# Altium footprint library PCB_General.PcbLib: 49 footprints (part 1 of 4)
Each footprint in its own frame and in the unit in brackets; x right, y up, seen from the top. Pads: shape width x height; smd on the part's side, far side on the other; paste and mask are expansions set on the pad; w line width, h text height; cw(c..) or ccw(c..) is an arc to the next point about the centre after c.
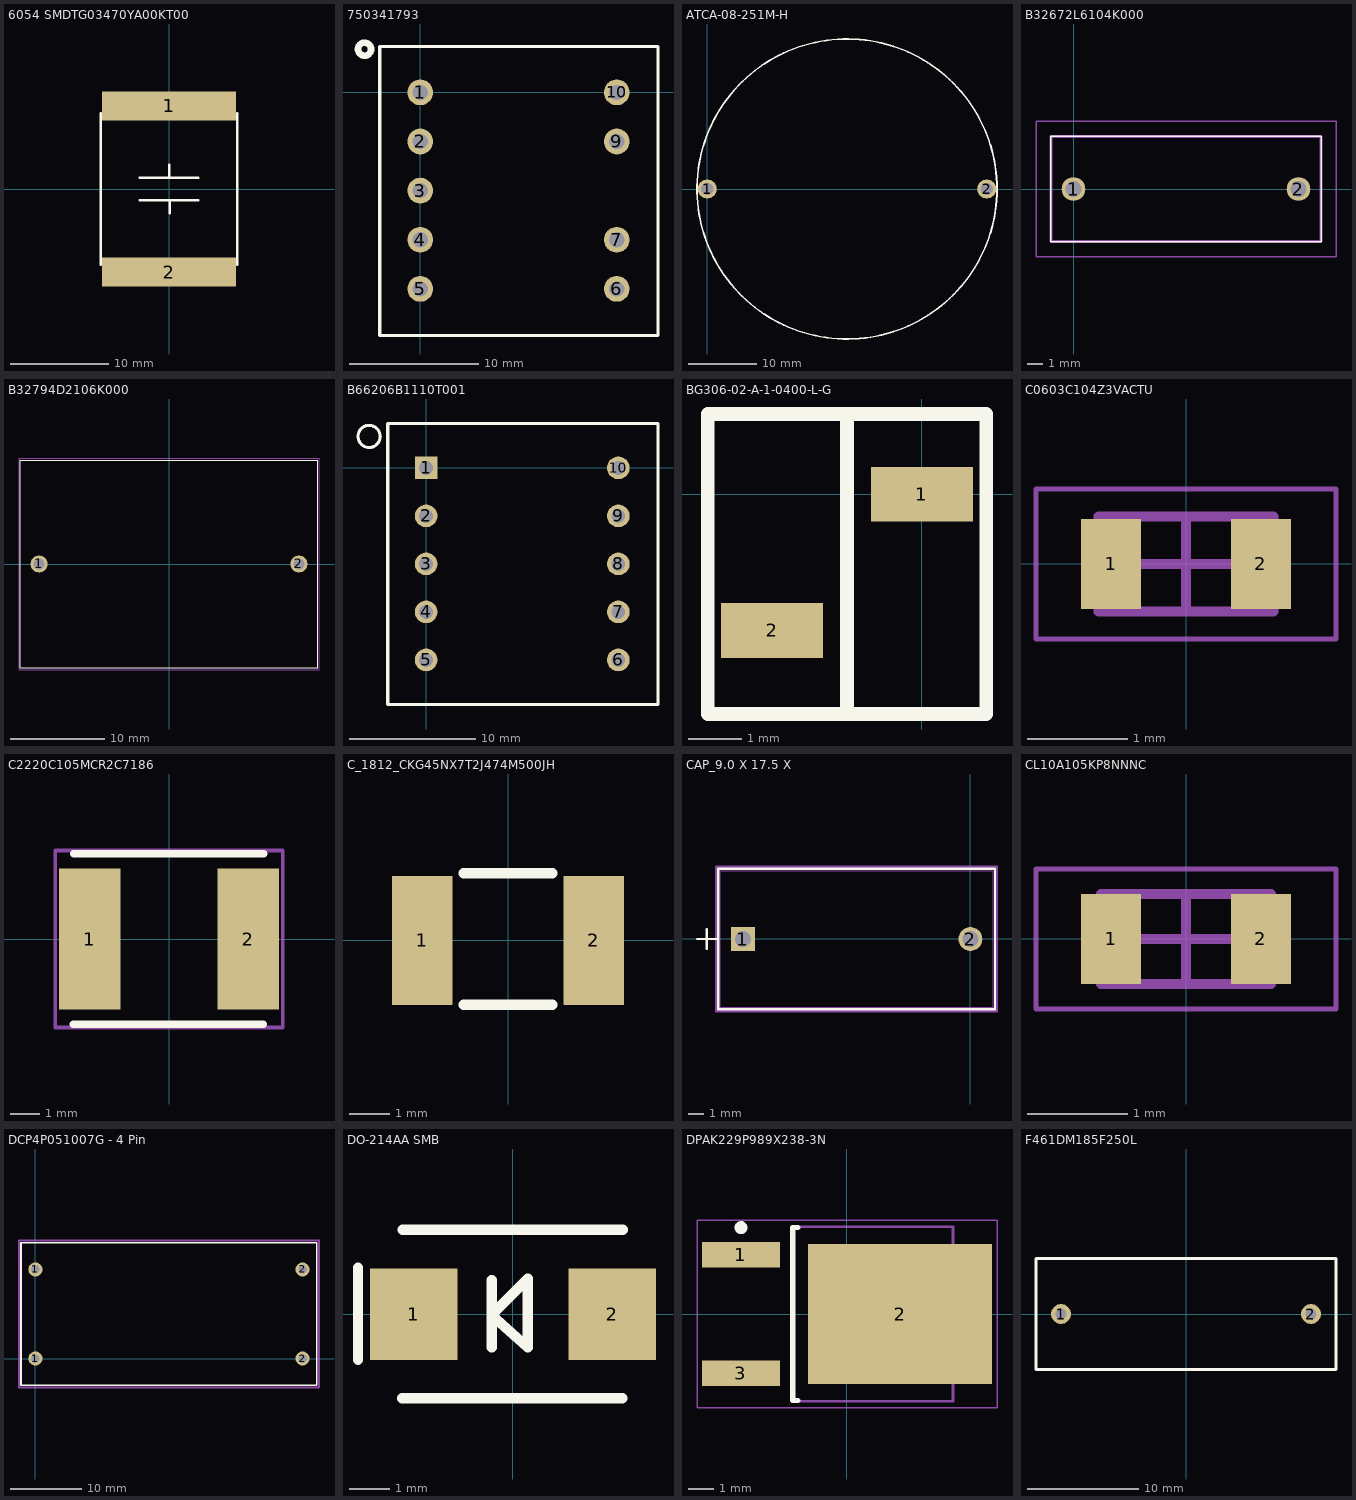
[diagram p0: the footprints below, top view; thin cyan lines are the x and y axes]

## 6054 SMDTG03470YA00KT00 [mm]
pads (2):
  rect 13.7x3 smd: 1(0,8.5) 2(0,-8.5)
Top Overlay:
  lines w0.254: -7,-7.75 -7,7.75 ; -3,-1.143 3,-1.143 ; -3,1.143 3,1.143 ; 0.025,1.143 0.025,2.5 ; 0.064,-2.5 0.064,-1.143 ; 7,-7.75 7,7.75
3D body "cap wima.stp": height 7, standoff 0, extent -6.85,-7.65 6.85,7.65

## 750341793 [mm] "Power Transformers EE20/10/6 (EF20) horizontal core"
height 17.6
pads (9):
  round 2 hole 1.17: 1(0,0) 2(0,-3.81) 3(0,-7.62) 4(0,-11.43) 5(0,-15.24) 6(15.24,-15.24) 7(15.24,-11.43) 9(15.24,-3.81) 10(15.24,0)
Top Overlay:
  circle w0.508: c-4.32,3.35 r0.508
  lines w0.254: -3.14,-18.85 18.44,-18.85 18.44,3.55 -3.14,3.55 -3.14,-18.85
3D body "070-6544_Download_STP_070-4989_rev1.STEP": height 16.61, standoff -3.51, extent -2.93,-18.63 18.29,3.37

## ATCA-08-251M-H [mm] "Fixed Inductors 250uH 27 mOhm Horizontal"
height 21.5
pads (2):
  round 2.8 hole 1.8: 1(0,0) 2(41,0)
Top Overlay:
  circle w0.254: c20.5,0 r22
3D body "ATCA-08-251M-H_3D.stp": height 21.75, standoff -13.15, extent -0.87,-21.498 42.027,21.398

## B32672L6104K000 [mm]
pads (2):
  round 1.575 hole 1.05: 1(0,0) 2(15,0)
Top Overlay:
  lines w0.1: -1.5,-3.5 16.5,-3.5 16.5,3.5 -1.5,3.5 -1.5,-3.5
Mechanical 13:
  lines w0.2: -1.5,-3.5 16.5,-3.5 16.5,3.5 -1.5,3.5 -1.5,-3.5
Mechanical 15:
  lines w0.1: -2.5,-4.5 17.5,-4.5 17.5,4.5 -2.5,4.5 -2.5,-4.5
3D body "B32672L6104K000.stp": height 18, standoff -5, extent -1.5,-3.5 16.5,3.5

## B32794D2106K000 [mm]
pads (2):
  round 1.8 hole 1.2: 1(-13.75,0) 2(13.75,0)
Top Overlay:
  lines w0.1: -15.75,-11 -15.75,11 15.75,11 15.75,-11 -15.75,-11
Mechanical 15:
  lines w0.1: -15.875,-11.176 15.875,-11.176 15.875,11.176 -15.875,11.176 -15.875,-11.176

## B66206B1110T001 [mm] "Coil Former E 20/10/6 (EF 20) Horizontal - TDK EPCOS"
height 16.8
pads (10):
  rect 1.8x1.8 hole 1.1: 1(0,0)
  round 1.8 hole 1.1: 2(0,-3.81) 3(0,-7.62) 4(0,-11.43) 5(0,-15.24) 6(15.24,-15.24) 7(15.24,-11.43) 8(15.24,-7.62) 9(15.24,-3.81) 10(15.24,0)
Top Overlay:
  circle w0.254: c-4.53,2.49 r0.879
  lines w0.254: -3.05,-18.78 18.39,-18.78 18.39,3.52 -3.05,3.52 -3.05,-18.78
3D body "070-6544_Download_STP_070-4989_rev1 (1).STEP": height 16.61, standoff -3.51, extent -2.96,-18.63 18.26,3.37

## BG306-02-A-1-0400-L-G [mm] "2 Position Receptacle Connector Surface Mount"
pads (2):
  rect 1.9x1.02 smd: 1(0,0) 2(-2.8,-2.54)
Top Overlay:
  lines w0.254: -4,-4.1 -4,1.5 ; -3.98,-4.1 1.17,-4.1 ; -3.98,1.5 1.17,1.5 ; -1.4,-4.1 -1.4,1.5 ; 1.2,-4.1 1.2,1.5
3D body "BG306-02-A-1-0400-L-G.stp": height 5.09, standoff -0.01, extent -3.4,-4.05 0.6,1.53

## C0603C104Z3VACTU [mm] "CAP CER 0.1UF 25V Y5V 0603"
height 0.87
pads (2):
  rect 0.6x0.9 smd: 1(-0.75,0) 2(0.75,0)
Top Assembly:
  lines w0.1: -0.875,-0.475 -0.875,0.475 0.875,0.475 0.875,-0.475 -0.875,-0.475
Mechanical 15:
  lines w0.05: -1.5,-0.75 -1.5,0.75 1.5,0.75 1.5,-0.75 -1.5,-0.75
  lines w0.1: -0.475,0 0.475,0 ; 0,-0.475 0,0.475
3D body: height 0.87, standoff 0, extent -0.525,-0.475 0.525,0.475
3D body: height 0.87, standoff 0, extent -0.875,-0.475 -0.525,0.475
3D body: height 0.87, standoff 0, extent 0.525,-0.475 0.875,0.475

## C2220C105MCR2C7186 [mm] "MLCC Capacitor 2220 KEMET"
height 5
pads (2):
  rect 2.08x4.78 smd: 1(-2.69,0) 2(2.69,0)
Top Overlay:
  lines w0.254: -3.24,-2.88 3.2,-2.88 ; -3.23,2.88 3.21,2.88
Mechanical 15:
  lines w0.127: -3.85,-3 -3.85,3 3.85,3 3.85,-3 -3.85,-3
3D body "C2220C105MCR2C7186.step": height 5.49, standoff -0.01, extent -3.26,-2.72 3.24,2.78

## C_1812_CKG45NX7T2J474M500JH [mm]
pads (2):
  rect 1.5x3.2 smd: 1(-2.125,0) 2(2.125,0)
Top Overlay:
  lines w0.254: -1.1,-1.6 1.1,-1.6 ; -1.1,1.67 1.1,1.67
3D body "megacap2.stp": height 5, standoff 0, extent -2.55,-1.75 2.45,1.75

## CAP_9.0 X 17.5 X [mil]
pads (2):
  rect 62x62 hole 42 mask+0: 1(-590,0)
  round 62 hole 42 mask+0: 2(0,0)
Top Overlay:
  lines w6: -709,0 -659,0 ; -684,-25 -684,25 ; -654,-182 -654,182 64,182 64,-182 -654,-182
Mechanical 13:
  lines w1: -709,0 -659,0 ; -684,-25 -684,25 ; -649,-177 -649,177 59,177 59,-177 -649,-177
Mechanical 15:
  lines w6: -659,-187 69,-187 69,187 -659,187 -659,-187
3D body: height 10, standoff 0, extent 0,0 10,10
3D body "CAP_9_0X17_5X18_0.step": height 689.02, standoff -195.98, extent -665,-177.01 42.99,177.01

## CL10A105KP8NNNC [mm] "CAP CER 1UF 10V X5R 0603"
height 0.9
pads (2):
  rect 0.6x0.9 smd: 1(-0.75,0) 2(0.75,0)
Top Assembly:
  lines w0.1: -0.85,-0.45 -0.85,0.45 0.85,0.45 0.85,-0.45 -0.85,-0.45
Mechanical 15:
  lines w0.05: -1.5,-0.7 -1.5,0.7 1.5,0.7 1.5,-0.7 -1.5,-0.7
  lines w0.1: -0.45,0 0.45,0 ; 0,-0.45 0,0.45
3D body: height 0.9, standoff 0, extent -0.55,-0.45 0.55,0.45
3D body: height 0.9, standoff 0, extent -0.85,-0.45 -0.55,0.45
3D body: height 0.9, standoff 0, extent 0.55,-0.45 0.85,0.45

## DCP4P051007G - 4 Pin [mm] "Film Capacitors 10uF 1100V 10% 4LD 20x39.5x41.5 PCM37.5 - 4 Pin"
height 39.5
pads (4):
  round 2 hole 1.2: 1(0,0) 1(0,12.5) 2(37.5,0) 2(37.5,12.5)
Top Overlay:
  lines w0.254: -2,-3.75 -2,16.25 39.5,16.25 39.5,-3.75 -2,-3.75
Mechanical 15:
  lines w0.254: -2.3,-4.05 39.81,-4.05 39.81,16.55 -2.3,16.55 -2.3,-4.05
3D body "cap wima bulk 10uF 4pin.stp": height 31.5, standoff -6, extent -2,-3.75 39.5,16.25

## DO-214AA SMB [mm] "DO-214AA SMD Diode package"
height 2.61
pads (2):
  rect 2.16x2.26 smd: 1(-2.45,0) 2(2.45,0)
Top Overlay:
  lines w0.254: -3.82,-1.12 -3.82,1.15 ; -2.73,-2.07 2.7,-2.07 ; -2.72,2.09 2.71,2.09 ; -0.524,-0.815 -0.524,0.845 ; -0.524,-0.012 0.364,0.877 0.364,-0.808 -0.524,-0.012
3D body "User Library-DIOM5539X24.step": height 2.45, standoff 0.03, extent -2.75,-1.95 2.75,1.95

## DPAK229P989X238-3N [mm] "D-PAK, 3-Pads, Body 6,20x6,73mm (max), IPC Medium Density"
height 2.38
pads (3):
  rect 3x1 smd: 1(-4.1,2.29) 3(-4.1,-2.29)
  rect 7.1x5.4 smd: 2(2.05,0)
Top Overlay:
  circle w0.25: c-4.1,3.34 r0.125
  lines w0.2: -1.9,-3.35 -2.1,-3.35 -2.1,3.35 -1.9,3.35
Mechanical 13:
  lines w0.1: -2.1,-3.375 -2.1,3.375 4.1,3.375 4.1,-3.375 -2.1,-3.375
Mechanical 15:
  lines w0.05: -5.8,-3.625 -5.8,3.625 5.8,3.625 5.8,-3.625 -5.8,-3.625
  lines w0.1: -0.5,0 0.5,0 ; 0,-0.5 0,0.5
3D body: height 2.38, standoff 0, extent -2.1,-3.375 4.1,3.375

## F461DM185F250L [mm] "Film Capacitors 250V 1.8uF 1%"
height 18.5
pads (2):
  round 1.8 hole 1: 1(-11.25,0) 2(11.25,0)
Top Overlay:
  lines w0.254: -13.5,-5 -13.5,5 13.5,5 13.5,-5 -13.5,-5
3D body "F461DM185K250L.step": height 18.5, standoff -19, extent -12.94,-4.49 13.06,4.515